# Altium footprint library 687 1xx 183 722.PcbLib: 16 footprints
Each footprint in its own frame and in the unit in brackets; x right, y up, seen from the top. Pads: shape width x height; smd on the part's side, far side on the other; paste and mask are expansions set on the pad; w line width, h text height; cw(c..) or ccw(c..) is an arc to the next point about the centre after c.
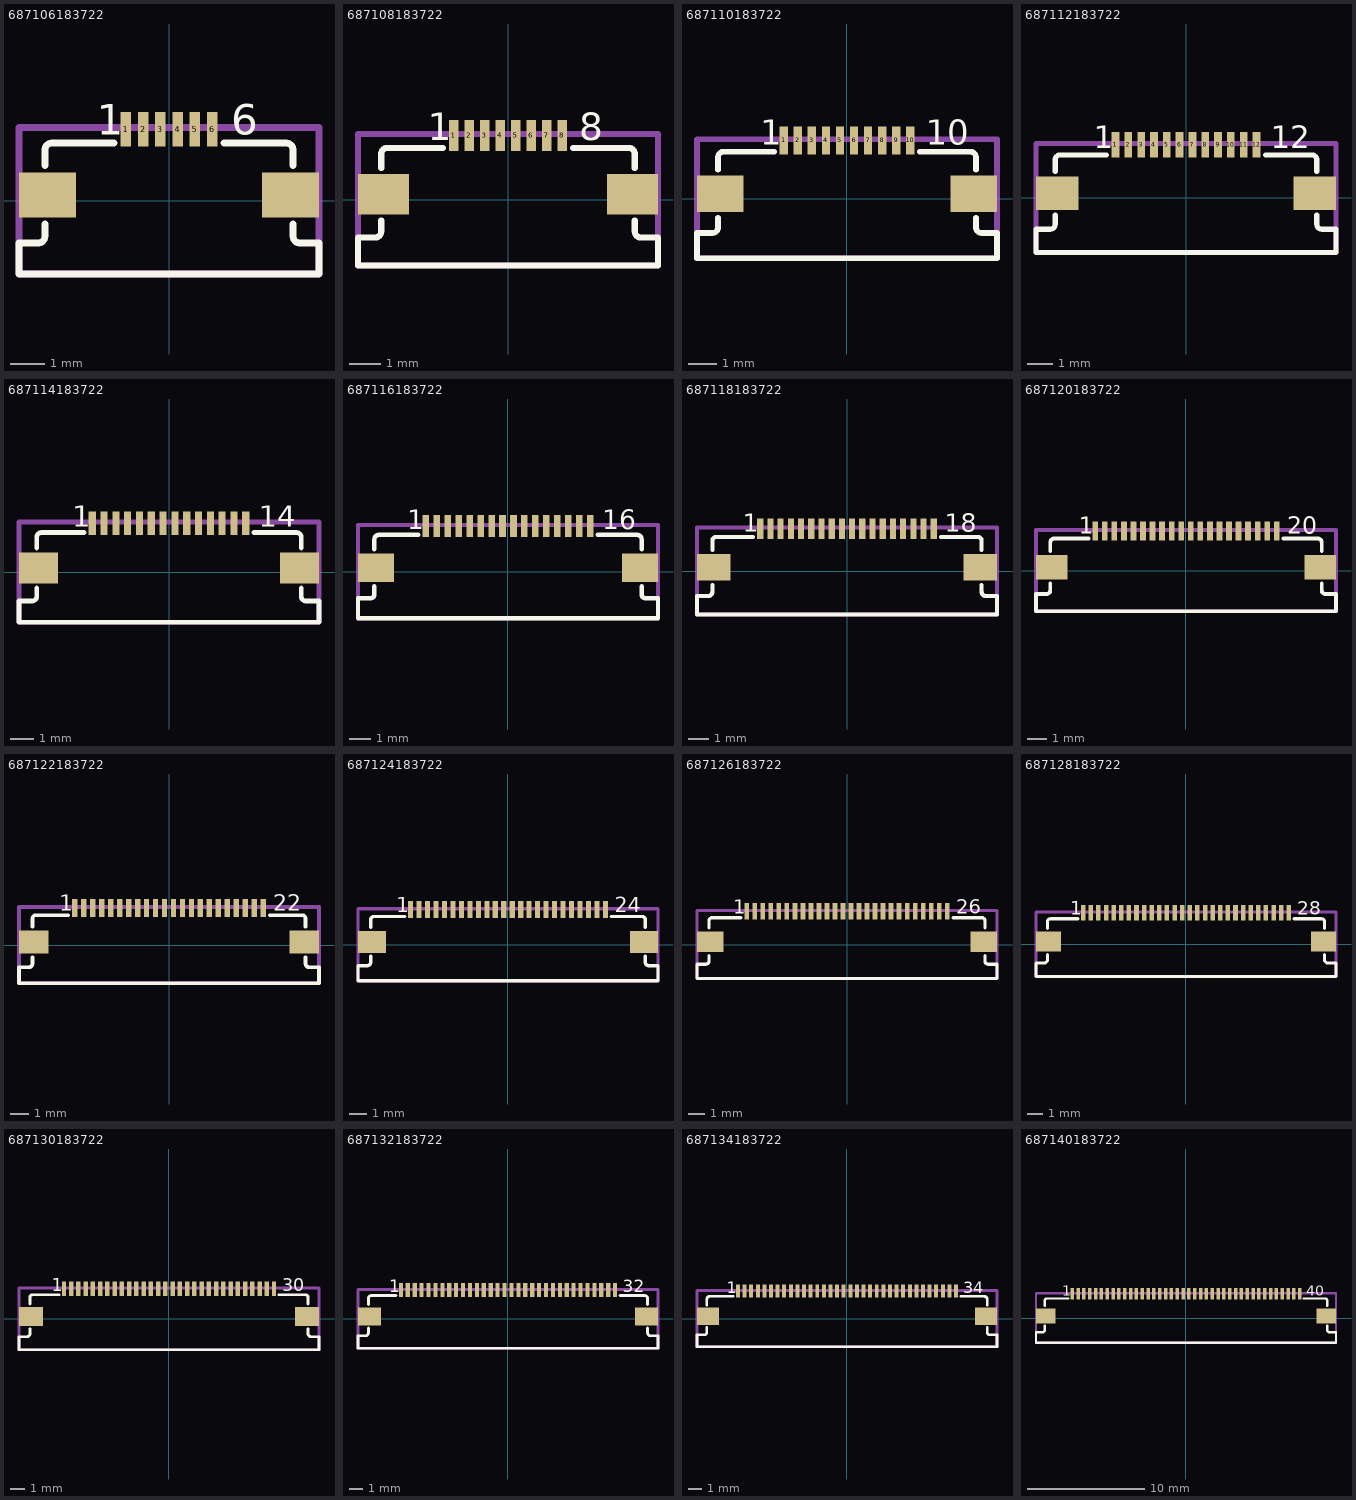
[diagram p0: the footprints below, top view; thin cyan lines are the x and y axes]

## 687106183722 [mm] "0.50 mm SMT Horizontal Bottom Contact - Low Profile, 6p"
height 1.2
pads (8):
  rect 0.3x1 smd: 1(-1.25,2.075) 2(-0.75,2.075) 3(-0.25,2.075) 4(0.25,2.075) 5(0.75,2.075) 6(1.25,2.075)
  rect 1.65x1.3 smd: ""(-3.525,0.175) ""(3.525,0.175)
Top Overlay:
  lines w0.2: -3.6,-0.675 -3.6,-1.025 cw(c-3.8,-1.025) -3.8,-1.225 -4.35,-1.225 -4.35,-2.125 4.35,-2.125 4.35,-1.225 3.8,-1.225 cw(c3.8,-1.025) 3.6,-1.025 3.6,-0.675 ; -3.6,1.025 -3.6,1.475 cw(c-3.4,1.475) -3.4,1.675 -1.6,1.675 ; 1.6,1.675 3.4,1.675 cw(c3.4,1.475) 3.6,1.475 3.6,1.025
  text "6" at 1.8,1.925 h0.89
  text "1" at -2.1,1.925 h0.89
Mechanical 13:
  lines w0.2: -4.35,-2.125 -4.35,2.125 4.35,2.125 4.35,-2.125 -4.35,-2.125
3D body "687106183722.stp": height 1.28, standoff -0.01, extent -4.35,-2.125 4.35,2.125

## 687108183722 [mm] "0.50 mm SMT Horizontal Bottom Contact - Low Profile, 8p"
height 1.2
pads (10):
  rect 0.3x1 smd: 1(-1.75,2.075) 2(-1.25,2.075) 3(-0.75,2.075) 4(-0.25,2.075) 5(0.25,2.075) 6(0.75,2.075) 7(1.25,2.075) 8(1.75,2.075)
  rect 1.65x1.3 smd: ""(-4.025,0.175) ""(4.025,0.175)
Top Overlay:
  lines w0.2: -4.1,-0.675 -4.1,-1.025 cw(c-4.3,-1.025) -4.3,-1.225 -4.85,-1.225 -4.85,-2.125 4.85,-2.125 4.85,-1.225 4.3,-1.225 cw(c4.3,-1.025) 4.1,-1.025 4.1,-0.675 ; -4.1,1.025 -4.1,1.475 cw(c-3.9,1.475) -3.9,1.675 -2.1,1.675 ; 2.1,1.675 3.9,1.675 cw(c3.9,1.475) 4.1,1.475 4.1,1.025
  text "8" at 2.3,1.925 h0.89
  text "1" at -2.6,1.925 h0.89
Mechanical 13:
  lines w0.2: -4.85,-2.125 -4.85,2.125 4.85,2.125 4.85,-2.125 -4.85,-2.125
3D body "687108183722.stp": height 1.28, standoff -0.01, extent -4.85,-2.125 4.85,2.125

## 687110183722 [mm] "0.50 mm SMT Horizontal Bottom Contact - Low Profile, 10p"
height 1.2
pads (12):
  rect 0.3x1 smd: 1(-2.25,2.075) 2(-1.75,2.075) 3(-1.25,2.075) 4(-0.75,2.075) 5(-0.25,2.075) 6(0.25,2.075) 7(0.75,2.075) 8(1.25,2.075) 9(1.75,2.075) 10(2.25,2.075)
  rect 1.65x1.3 smd: ""(-4.525,0.175) ""(4.525,0.175)
Top Overlay:
  lines w0.2: -4.6,-0.675 -4.6,-1.025 cw(c-4.8,-1.025) -4.8,-1.225 -5.35,-1.225 -5.35,-2.125 5.35,-2.125 5.35,-1.225 4.8,-1.225 cw(c4.8,-1.025) 4.6,-1.025 4.6,-0.675 ; -4.6,1.025 -4.6,1.475 cw(c-4.4,1.475) -4.4,1.675 -2.6,1.675 ; 2.6,1.675 4.4,1.675 cw(c4.4,1.475) 4.6,1.475 4.6,1.025
  text "1" at -3.1,1.925 h0.89
  text "10" at 2.8,1.925 h0.89
Mechanical 13:
  lines w0.2: -5.35,-2.125 5.35,-2.125 5.35,2.125 -5.35,2.125 -5.35,-2.125
3D body "687110183722.stp": height 1.28, standoff -0.01, extent -5.35,-2.125 5.35,2.125

## 687112183722 [mm] "0.50 mm SMT Horizontal Bottom Contact - Low Profile, 12p"
height 1.2
pads (14):
  rect 0.3x1 smd: 1(-2.75,2.075) 2(-2.25,2.075) 3(-1.75,2.075) 4(-1.25,2.075) 5(-0.75,2.075) 6(-0.25,2.075) 7(0.25,2.075) 8(0.75,2.075) 9(1.25,2.075) 10(1.75,2.075) 11(2.25,2.075) 12(2.75,2.075)
  rect 1.65x1.3 smd: ""(-5.025,0.175) ""(5.025,0.175)
Top Overlay:
  lines w0.2: -5.1,-0.675 -5.1,-1.025 cw(c-5.3,-1.025) -5.3,-1.225 -5.85,-1.225 -5.85,-2.125 5.85,-2.125 5.85,-1.225 5.3,-1.225 cw(c5.3,-1.025) 5.1,-1.025 5.1,-0.675 ; -5.1,1.025 -5.1,1.475 cw(c-4.9,1.475) -4.9,1.675 -3.1,1.675 ; 3.1,1.675 4.9,1.675 cw(c4.9,1.475) 5.1,1.475 5.1,1.025
  text "1" at -3.6,1.925 h0.89
  text "12" at 3.3,1.925 h0.89
Mechanical 13:
  lines w0.2: -5.85,-2.125 5.85,-2.125 5.85,2.125 -5.85,2.125 -5.85,-2.125
3D body "687112183722.stp": height 1.28, standoff -0.01, extent -5.85,-2.125 5.85,2.125

## 687114183722 [mm] "0.50 mm SMT Horizontal Bottom Contact - Low Profile, 14p"
height 1.2
pads (16):
  rect 0.3x1 smd: 1(-3.25,2.075) 2(-2.75,2.075) 3(-2.25,2.075) 4(-1.75,2.075) 5(-1.25,2.075) 6(-0.75,2.075) 7(-0.25,2.075) 8(0.25,2.075) 9(0.75,2.075) 10(1.25,2.075) 11(1.75,2.075) 12(2.25,2.075) 13(2.75,2.075) 14(3.25,2.075)
  rect 1.65x1.3 smd: ""(-5.525,0.175) ""(5.525,0.175)
Top Overlay:
  lines w0.2: -5.6,-0.675 -5.6,-1.025 cw(c-5.8,-1.025) -5.8,-1.225 -6.35,-1.225 -6.35,-2.125 6.35,-2.125 6.35,-1.225 5.8,-1.225 cw(c5.8,-1.025) 5.6,-1.025 5.6,-0.675 ; -5.6,1.025 -5.6,1.475 cw(c-5.4,1.475) -5.4,1.675 -3.6,1.675 ; 3.6,1.675 5.4,1.675 cw(c5.4,1.475) 5.6,1.475 5.6,1.025
  text "1" at -4.1,1.925 h0.89
  text "14" at 3.8,1.925 h0.89
Mechanical 13:
  lines w0.2: -6.35,-2.125 6.35,-2.125 6.35,2.125 -6.35,2.125 -6.35,-2.125
3D body "687114183722.stp": height 1.28, standoff -0.01, extent -6.35,-2.125 6.35,2.125

## 687116183722 [mm] "0.50 mm SMT Horizontal Bottom Contact - Low Profile, 16p"
height 1.2
pads (18):
  rect 0.3x1 smd: 1(-3.75,2.075) 2(-3.25,2.075) 3(-2.75,2.075) 4(-2.25,2.075) 5(-1.75,2.075) 6(-1.25,2.075) 7(-0.75,2.075) 8(-0.25,2.075) 9(0.25,2.075) 10(0.75,2.075) 11(1.25,2.075) 12(1.75,2.075) 13(2.25,2.075) 14(2.75,2.075) 15(3.25,2.075) 16(3.75,2.075)
  rect 1.65x1.3 smd: ""(-6.025,0.175) ""(6.025,0.175)
Top Overlay:
  lines w0.2: -6.1,-0.675 -6.1,-1.025 cw(c-6.3,-1.025) -6.3,-1.225 -6.85,-1.225 -6.85,-2.125 6.85,-2.125 6.85,-1.225 6.3,-1.225 cw(c6.3,-1.025) 6.1,-1.025 6.1,-0.675 ; -6.1,1.025 -6.1,1.475 cw(c-5.9,1.475) -5.9,1.675 -4.1,1.675 ; 4.1,1.675 5.9,1.675 cw(c5.9,1.475) 6.1,1.475 6.1,1.025
  text "1" at -4.6,1.925 h0.89
  text "16" at 4.3,1.925 h0.89
Mechanical 13:
  lines w0.2: -6.85,-2.125 6.85,-2.125 6.85,2.125 -6.85,2.125 -6.85,-2.125
3D body "687116183722.stp": height 1.28, standoff -0.01, extent -6.85,-2.125 6.85,2.125

## 687118183722 [mm] "0.50 mm SMT Horizontal Bottom Contact - Low Profile, 18p"
height 1.2
pads (20):
  rect 0.3x1 smd: 1(-4.25,2.075) 2(-3.75,2.075) 3(-3.25,2.075) 4(-2.75,2.075) 5(-2.25,2.075) 6(-1.75,2.075) 7(-1.25,2.075) 8(-0.75,2.075) 9(-0.25,2.075) 10(0.25,2.075) 11(0.75,2.075) 12(1.25,2.075) 13(1.75,2.075) 14(2.25,2.075) 15(2.75,2.075) 16(3.25,2.075) 17(3.75,2.075) 18(4.25,2.075)
  rect 1.65x1.3 smd: ""(-6.525,0.175) ""(6.525,0.175)
Top Overlay:
  lines w0.2: -6.6,-0.675 -6.6,-1.025 cw(c-6.8,-1.025) -6.8,-1.225 -7.35,-1.225 -7.35,-2.125 7.35,-2.125 7.35,-1.225 6.8,-1.225 cw(c6.8,-1.025) 6.6,-1.025 6.6,-0.675 ; -6.6,1.025 -6.6,1.475 cw(c-6.4,1.475) -6.4,1.675 -4.6,1.675 ; 4.6,1.675 6.4,1.675 cw(c6.4,1.475) 6.6,1.475 6.6,1.025
  text "18" at 4.8,1.925 h0.89
  text "1" at -5.1,1.925 h0.89
Mechanical 13:
  lines w0.2: -7.35,-2.125 -7.35,2.125 7.35,2.125 7.35,-2.125 -7.35,-2.125
3D body "687118183722.stp": height 1.28, standoff -0.01, extent -7.35,-2.125 7.35,2.125

## 687120183722 [mm] "0.50 mm SMT Horizontal Bottom Contact - Low Profile, 20p"
height 1.2
pads (22):
  rect 0.3x1 smd: 1(-4.75,2.075) 2(-4.25,2.075) 3(-3.75,2.075) 4(-3.25,2.075) 5(-2.75,2.075) 6(-2.25,2.075) 7(-1.75,2.075) 8(-1.25,2.075) 9(-0.75,2.075) 10(-0.25,2.075) 11(0.25,2.075) 12(0.75,2.075) 13(1.25,2.075) 14(1.75,2.075) 15(2.25,2.075) 16(2.75,2.075) 17(3.25,2.075) 18(3.75,2.075) 19(4.25,2.075) 20(4.75,2.075)
  rect 1.65x1.3 smd: ""(-7.025,0.175) ""(7.025,0.175)
Top Overlay:
  lines w0.2: -7.1,-0.675 -7.1,-1.025 cw(c-7.3,-1.025) -7.3,-1.225 -7.85,-1.225 -7.85,-2.125 7.85,-2.125 7.85,-1.225 7.3,-1.225 cw(c7.3,-1.025) 7.1,-1.025 7.1,-0.675 ; -7.1,1.025 -7.1,1.475 cw(c-6.9,1.475) -6.9,1.675 -5.1,1.675 ; 5.1,1.675 6.9,1.675 cw(c6.9,1.475) 7.1,1.475 7.1,1.025
  text "1" at -5.6,1.925 h0.89
  text "20" at 5.3,1.925 h0.89
Mechanical 13:
  lines w0.2: -7.85,-2.125 7.85,-2.125 7.85,2.125 -7.85,2.125 -7.85,-2.125
3D body "687120183722.stp": height 1.28, standoff -0.01, extent -7.85,-2.125 7.85,2.125

## 687122183722 [mm] "0.50 mm SMT Horizontal Bottom Contact - Low Profile, 22p"
height 1.2
pads (24):
  rect 0.3x1 smd: 1(-5.25,2.075) 2(-4.75,2.075) 3(-4.25,2.075) 4(-3.75,2.075) 5(-3.25,2.075) 6(-2.75,2.075) 7(-2.25,2.075) 8(-1.75,2.075) 9(-1.25,2.075) 10(-0.75,2.075) 11(-0.25,2.075) 12(0.25,2.075) 13(0.75,2.075) 14(1.25,2.075) 15(1.75,2.075) 16(2.25,2.075) 17(2.75,2.075) 18(3.25,2.075) 19(3.75,2.075) 20(4.25,2.075) 21(4.75,2.075) 22(5.25,2.075)
  rect 1.65x1.3 smd: ""(-7.525,0.175) ""(7.525,0.175)
Top Overlay:
  lines w0.2: -7.6,-0.675 -7.6,-1.025 cw(c-7.8,-1.025) -7.8,-1.225 -8.35,-1.225 -8.35,-2.125 8.35,-2.125 8.35,-1.225 7.8,-1.225 cw(c7.8,-1.025) 7.6,-1.025 7.6,-0.675 ; -7.6,1.025 -7.6,1.475 cw(c-7.4,1.475) -7.4,1.675 -5.6,1.675 ; 5.6,1.675 7.4,1.675 cw(c7.4,1.475) 7.6,1.475 7.6,1.025
  text "1" at -6.1,1.925 h0.89
  text "22" at 5.8,1.925 h0.89
Mechanical 13:
  lines w0.2: -8.35,-2.125 8.35,-2.125 8.35,2.125 -8.35,2.125 -8.35,-2.125
3D body "687122183722.stp": height 1.28, standoff -0.01, extent -8.35,-2.125 8.35,2.125

## 687124183722 [mm] "0.50 mm SMT Horizontal Bottom Contact - Low Profile, 24p"
height 1.2
pads (26):
  rect 0.3x1 smd: 1(-5.75,2.075) 2(-5.25,2.075) 3(-4.75,2.075) 4(-4.25,2.075) 5(-3.75,2.075) 6(-3.25,2.075) 7(-2.75,2.075) 8(-2.25,2.075) 9(-1.75,2.075) 10(-1.25,2.075) 11(-0.75,2.075) 12(-0.25,2.075) 13(0.25,2.075) 14(0.75,2.075) 15(1.25,2.075) 16(1.75,2.075) 17(2.25,2.075) 18(2.75,2.075) 19(3.25,2.075) 20(3.75,2.075) 21(4.25,2.075) 22(4.75,2.075) 23(5.25,2.075) 24(5.75,2.075)
  rect 1.65x1.3 smd: ""(-8.025,0.175) ""(8.025,0.175)
Top Overlay:
  lines w0.2: -8.1,-0.675 -8.1,-1.025 cw(c-8.3,-1.025) -8.3,-1.225 -8.85,-1.225 -8.85,-2.125 8.85,-2.125 ; -8.1,1.025 -8.1,1.475 cw(c-7.9,1.475) -7.9,1.675 -6.1,1.675 ; 6.1,1.675 7.9,1.675 cw(c7.9,1.475) 8.1,1.475 8.1,1.025 ; 8.1,-0.675 8.1,-1.025 ccw(c8.3,-1.025) 8.3,-1.225 8.85,-1.225 8.85,-2.125
  text "24" at 6.3,1.925 h0.89
  text "1" at -6.6,1.925 h0.89
Mechanical 13:
  lines w0.2: -8.85,-2.125 -8.85,2.125 8.85,2.125 8.85,-2.125 -8.85,-2.125
3D body "687124183722.stp": height 1.28, standoff -0.01, extent -8.85,-2.125 8.85,2.125

## 687126183722 [mm] "0.50 mm SMT Horizontal Bottom Contact - Low Profile, 26p"
height 1.2
pads (28):
  rect 0.3x1 smd: 1(-6.25,2.075) 2(-5.75,2.075) 3(-5.25,2.075) 4(-4.75,2.075) 5(-4.25,2.075) 6(-3.75,2.075) 7(-3.25,2.075) 8(-2.75,2.075) 9(-2.25,2.075) 10(-1.75,2.075) 11(-1.25,2.075) 12(-0.75,2.075) 13(-0.25,2.075) 14(0.25,2.075) 15(0.75,2.075) 16(1.25,2.075) 17(1.75,2.075) 18(2.25,2.075) 19(2.75,2.075) 20(3.25,2.075) 21(3.75,2.075) 22(4.25,2.075) 23(4.75,2.075) 24(5.25,2.075) 25(5.75,2.075) 26(6.25,2.075)
  rect 1.65x1.3 smd: ""(-8.525,0.175) ""(8.525,0.175)
Top Overlay:
  lines w0.2: -8.6,-0.675 -8.6,-1.025 cw(c-8.8,-1.025) -8.8,-1.225 -9.35,-1.225 -9.35,-2.125 9.35,-2.125 9.35,-1.225 8.8,-1.225 cw(c8.8,-1.025) 8.6,-1.025 8.6,-0.675 ; -8.6,1.025 -8.6,1.475 cw(c-8.4,1.475) -8.4,1.675 -6.6,1.675 ; 6.6,1.675 8.4,1.675 cw(c8.4,1.475) 8.6,1.475 8.6,1.025
  text "26" at 6.8,1.925 h0.89
  text "1" at -7.1,1.925 h0.89
Mechanical 13:
  lines w0.2: -9.35,-2.125 -9.35,2.125 9.35,2.125 9.35,-2.125 -9.35,-2.125
3D body "687126183722.stp": height 1.28, standoff -0.01, extent -9.35,-2.125 9.35,2.125

## 687128183722 [mm] "0.50 mm SMT Horizontal Bottom Contact - Low Profile, 28p"
height 1.2
pads (30):
  rect 0.3x1 smd: 1(-6.75,2.075) 2(-6.25,2.075) 3(-5.75,2.075) 4(-5.25,2.075) 5(-4.75,2.075) 6(-4.25,2.075) 7(-3.75,2.075) 8(-3.25,2.075) 9(-2.75,2.075) 10(-2.25,2.075) 11(-1.75,2.075) 12(-1.25,2.075) 13(-0.75,2.075) 14(-0.25,2.075) 15(0.25,2.075) 16(0.75,2.075) 17(1.25,2.075) 18(1.75,2.075) 19(2.25,2.075) 20(2.75,2.075) 21(3.25,2.075) 22(3.75,2.075) 23(4.25,2.075) 24(4.75,2.075) 25(5.25,2.075) 26(5.75,2.075) 27(6.25,2.075) 28(6.75,2.075)
  rect 1.65x1.3 smd: ""(-9.025,0.175) ""(9.025,0.175)
Top Overlay:
  lines w0.2: -9.1,-0.675 -9.1,-1.025 cw(c-9.3,-1.025) -9.3,-1.225 -9.85,-1.225 -9.85,-2.125 9.85,-2.125 9.85,-1.225 9.3,-1.225 cw(c9.3,-1.025) 9.1,-1.025 9.1,-0.675 ; -9.1,1.025 -9.1,1.475 cw(c-8.9,1.475) -8.9,1.675 -7.1,1.675 ; 7.1,1.675 8.9,1.675 cw(c8.9,1.475) 9.1,1.475 9.1,1.025
  text "1" at -7.6,1.925 h0.89
  text "28" at 7.3,1.925 h0.89
Mechanical 13:
  lines w0.2: -9.85,-2.125 9.85,-2.125 9.85,2.125 -9.85,2.125 -9.85,-2.125
3D body "687128183722.stp": height 1.24, standoff -0.01, extent -9.85,-2.125 9.85,2.125

## 687130183722 [mm] "0.50 mm SMT Horizontal Bottom Contact - Low Profile, 30p"
height 1.2
pads (32):
  rect 0.3x1 smd: 1(-7.25,2.075) 2(-6.75,2.075) 3(-6.25,2.075) 4(-5.75,2.075) 5(-5.25,2.075) 6(-4.75,2.075) 7(-4.25,2.075) 8(-3.75,2.075) 9(-3.25,2.075) 10(-2.75,2.075) 11(-2.25,2.075) 12(-1.75,2.075) 13(-1.25,2.075) 14(-0.75,2.075) 15(-0.25,2.075) 16(0.25,2.075) 17(0.75,2.075) 18(1.25,2.075) 19(1.75,2.075) 20(2.25,2.075) 21(2.75,2.075) 22(3.25,2.075) 23(3.75,2.075) 24(4.25,2.075) 25(4.75,2.075) 26(5.25,2.075) 27(5.75,2.075) 28(6.25,2.075) 29(6.75,2.075) 30(7.25,2.075)
  rect 1.65x1.3 smd: ""(-9.525,0.175) ""(9.525,0.175)
Top Overlay:
  lines w0.2: -9.6,-0.675 -9.6,-1.025 cw(c-9.8,-1.025) -9.8,-1.225 -10.35,-1.225 -10.35,-2.125 10.35,-2.125 10.35,-1.225 9.8,-1.225 cw(c9.8,-1.025) 9.6,-1.025 9.6,-0.675 ; -9.6,1.025 -9.6,1.475 cw(c-9.4,1.475) -9.4,1.675 -7.6,1.675 ; 7.6,1.675 9.4,1.675 cw(c9.4,1.475) 9.6,1.475 9.6,1.025
  text "30" at 7.8,1.925 h0.89
  text "1" at -8.1,1.925 h0.89
Mechanical 13:
  lines w0.2: -10.35,-2.125 -10.35,2.125 10.35,2.125 10.35,-2.125 -10.35,-2.125
3D body "687130183722.stp": height 1.24, standoff -0.01, extent -10.35,-2.125 10.35,2.125

## 687132183722 [mm] "0.50 mm SMT Horizontal Bottom Contact - Low Profile, 32p"
height 1.2
pads (34):
  rect 0.3x1 smd: 1(-7.75,2.075) 2(-7.25,2.075) 3(-6.75,2.075) 4(-6.25,2.075) 5(-5.75,2.075) 6(-5.25,2.075) 7(-4.75,2.075) 8(-4.25,2.075) 9(-3.75,2.075) 10(-3.25,2.075) 11(-2.75,2.075) 12(-2.25,2.075) 13(-1.75,2.075) 14(-1.25,2.075) 15(-0.75,2.075) 16(-0.25,2.075) 17(0.25,2.075) 18(0.75,2.075) 19(1.25,2.075) 20(1.75,2.075) 21(2.25,2.075) 22(2.75,2.075) 23(3.25,2.075) 24(3.75,2.075) 25(4.25,2.075) 26(4.75,2.075) 27(5.25,2.075) 28(5.75,2.075) 29(6.25,2.075) 30(6.75,2.075) 31(7.25,2.075) 32(7.75,2.075)
  rect 1.65x1.3 smd: ""(-10.025,0.175) ""(10.025,0.175)
Top Overlay:
  lines w0.2: -10.1,-0.675 -10.1,-1.025 cw(c-10.3,-1.025) -10.3,-1.225 -10.85,-1.225 -10.85,-2.125 10.85,-2.125 10.85,-1.225 10.3,-1.225 cw(c10.3,-1.025) 10.1,-1.025 10.1,-0.675 ; -10.1,1.025 -10.1,1.475 cw(c-9.9,1.475) -9.9,1.675 -8.1,1.675 ; 8.1,1.675 9.9,1.675 cw(c9.9,1.475) 10.1,1.475 10.1,1.025
  text "32" at 8.3,1.925 h0.89
  text "1" at -8.6,1.925 h0.89
Mechanical 13:
  lines w0.2: -10.85,-2.125 -10.85,2.125 10.85,2.125 10.85,-2.125 -10.85,-2.125
3D body "687132183722.stp": height 1.24, standoff -0.01, extent -10.85,-2.125 10.85,2.125

## 687134183722 [mm] "0.50 mm SMT Horizontal Bottom Contact - Low Profile, 34p"
height 1.2
pads (36):
  rect 0.3x1 smd: 1(-8.25,2.075) 2(-7.75,2.075) 3(-7.25,2.075) 4(-6.75,2.075) 5(-6.25,2.075) 6(-5.75,2.075) 7(-5.25,2.075) 8(-4.75,2.075) 9(-4.25,2.075) 10(-3.75,2.075) 11(-3.25,2.075) 12(-2.75,2.075) 13(-2.25,2.075) 14(-1.75,2.075) 15(-1.25,2.075) 16(-0.75,2.075) 17(-0.25,2.075) 18(0.25,2.075) 19(0.75,2.075) 20(1.25,2.075) 21(1.75,2.075) 22(2.25,2.075) 23(2.75,2.075) 24(3.25,2.075) 25(3.75,2.075) 26(4.25,2.075) 27(4.75,2.075) 28(5.25,2.075) 29(5.75,2.075) 30(6.25,2.075) 31(6.75,2.075) 32(7.25,2.075) 33(7.75,2.075) 34(8.25,2.075)
  rect 1.65x1.3 smd: ""(-10.525,0.175) ""(10.525,0.175)
Top Overlay:
  lines w0.2: -10.6,-0.675 -10.6,-1.025 cw(c-10.8,-1.025) -10.8,-1.225 -11.35,-1.225 -11.35,-2.125 11.35,-2.125 11.35,-1.225 10.8,-1.225 cw(c10.8,-1.025) 10.6,-1.025 10.6,-0.675 ; -10.6,1.025 -10.6,1.475 cw(c-10.4,1.475) -10.4,1.675 -8.6,1.675 ; 8.6,1.675 10.4,1.675 cw(c10.4,1.475) 10.6,1.475 10.6,1.025
  text "1" at -9.1,1.925 h0.89
  text "34" at 8.8,1.925 h0.89
Mechanical 13:
  lines w0.2: -11.35,-2.125 11.35,-2.125 11.35,2.125 -11.35,2.125 -11.35,-2.125
3D body "687134183722.stp": height 1.24, standoff -0.01, extent -11.35,-2.125 11.35,2.125

## 687140183722 [mm] "0.50 mm SMT Horizontal Bottom Contact - Low Profile, 40p"
height 1.2
pads (42):
  rect 0.3x1 smd: 1(-9.75,2.075) 2(-9.25,2.075) 3(-8.75,2.075) 4(-8.25,2.075) 5(-7.75,2.075) 6(-7.25,2.075) 7(-6.75,2.075) 8(-6.25,2.075) 9(-5.75,2.075) 10(-5.25,2.075) 11(-4.75,2.075) 12(-4.25,2.075) 13(-3.75,2.075) 14(-3.25,2.075) 15(-2.75,2.075) 16(-2.25,2.075) 17(-1.75,2.075) 18(-1.25,2.075) 19(-0.75,2.075) 20(-0.25,2.075) 21(0.25,2.075) 22(0.75,2.075) 23(1.25,2.075) 24(1.75,2.075) 25(2.25,2.075) 26(2.75,2.075) 27(3.25,2.075) 28(3.75,2.075) 29(4.25,2.075) 30(4.75,2.075) 31(5.25,2.075) 32(5.75,2.075) 33(6.25,2.075) 34(6.75,2.075) 35(7.25,2.075) 36(7.75,2.075) 37(8.25,2.075) 38(8.75,2.075) 39(9.25,2.075) 40(9.75,2.075)
  rect 1.65x1.3 smd: ""(-12.025,0.175) ""(12.025,0.175)
Top Overlay:
  lines w0.2: -12.1,-0.675 -12.1,-1.025 cw(c-12.3,-1.025) -12.3,-1.225 -12.85,-1.225 -12.85,-2.125 12.85,-2.125 12.85,-1.225 12.3,-1.225 cw(c12.3,-1.025) 12.1,-1.025 12.1,-0.675 ; -12.1,1.025 -12.1,1.475 cw(c-11.9,1.475) -11.9,1.675 -10.1,1.675 ; 10.1,1.675 11.9,1.675 cw(c11.9,1.475) 12.1,1.475 12.1,1.025
  text "40" at 10.3,1.925 h0.89
  text "1" at -10.6,1.925 h0.89
Mechanical 13:
  lines w0.2: -12.85,-2.125 -12.85,2.125 12.85,2.125 12.85,-2.125 -12.85,-2.125
3D body "687140183722.stp": height 1.24, standoff -0.01, extent -12.85,-2.125 12.85,2.125